# Altium integrated library Xilinx XC17S00.IntLib: 62 symbols (part 2 of 2)
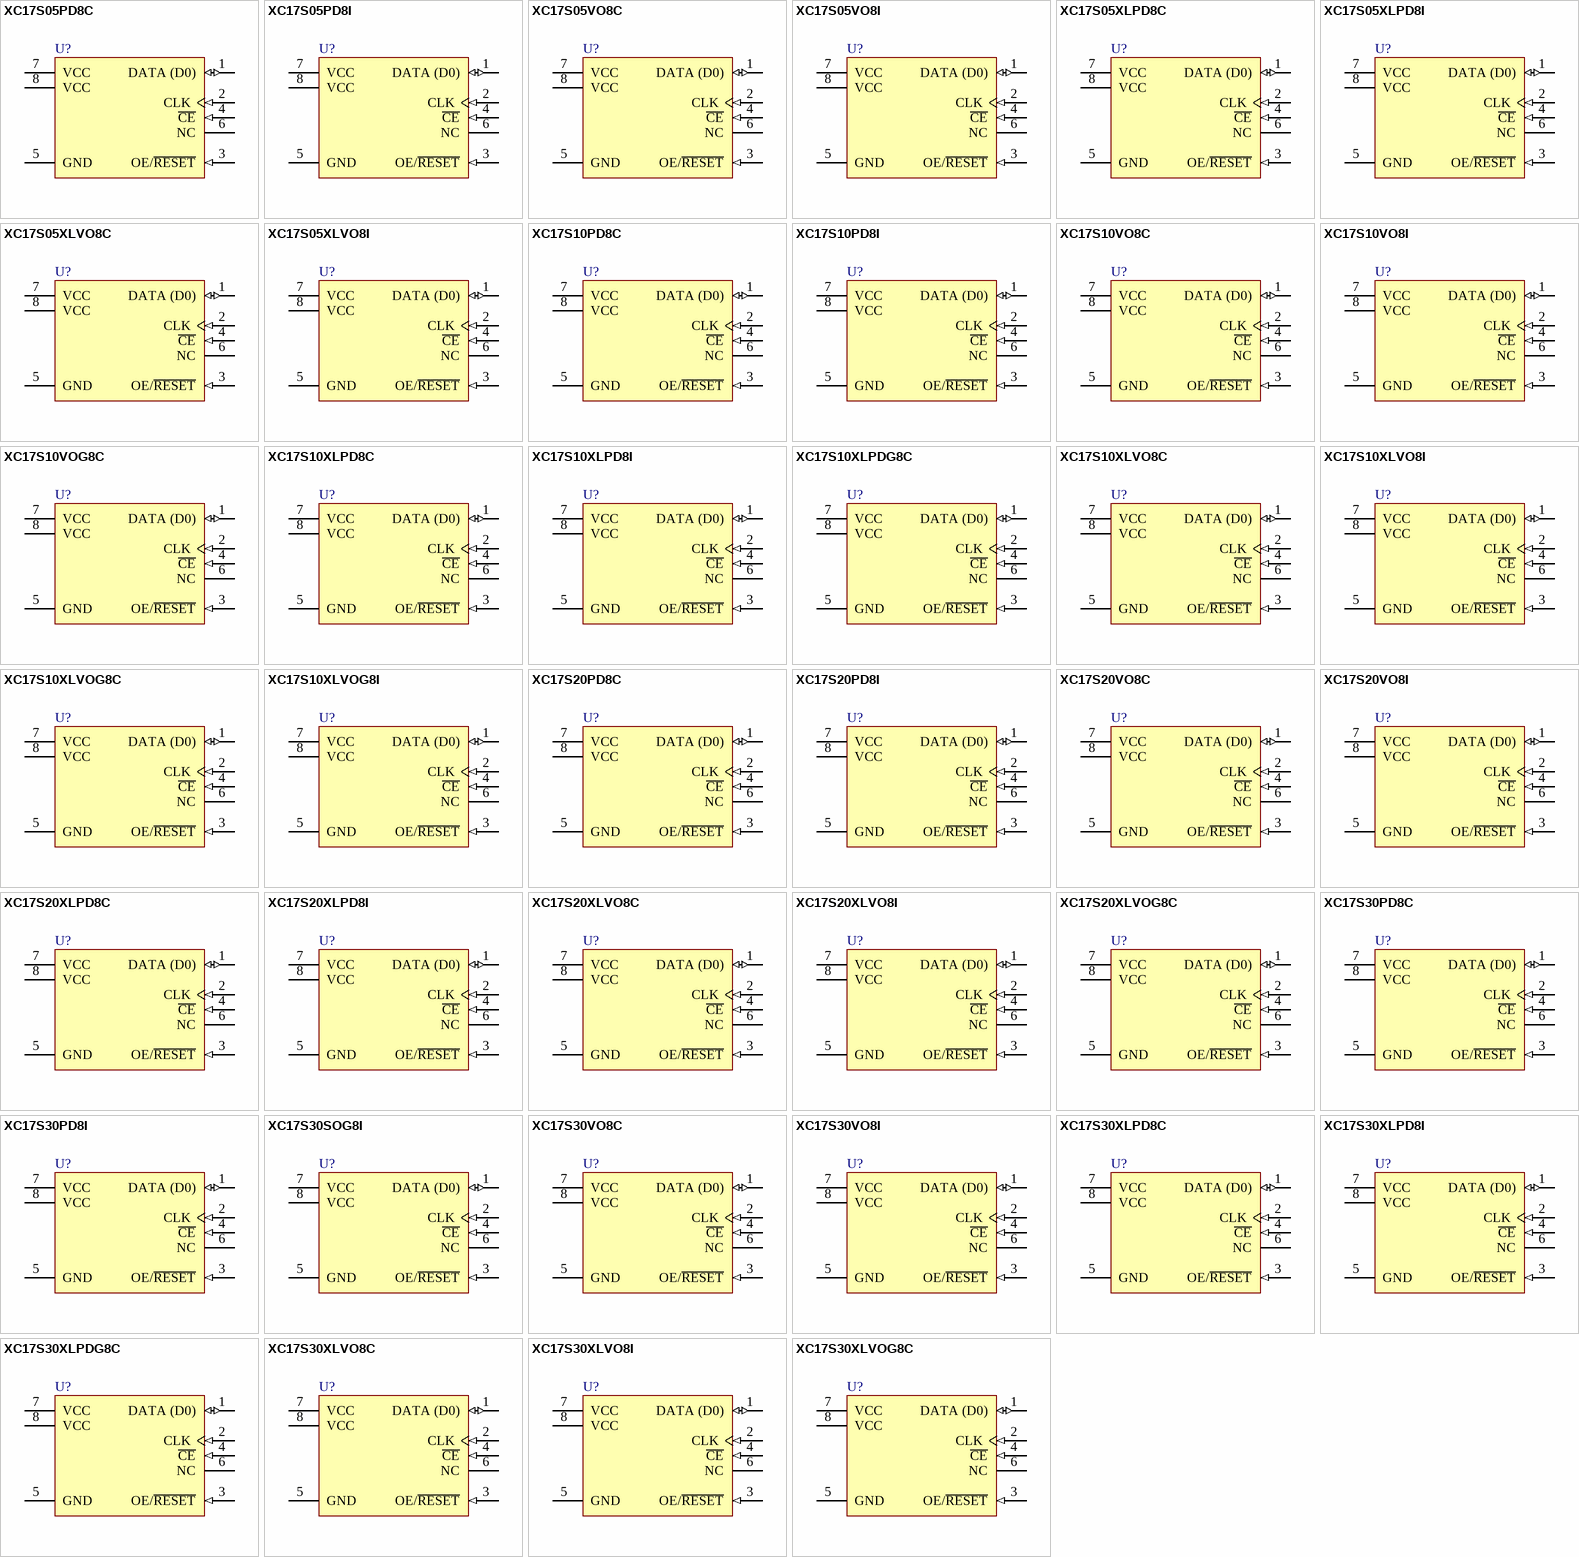
[diagram p2: symbols XC17S05PD8C to XC17S30XLVOG8C]

## XC17S30XLVO8C
designator U?
XC17S00XL Series, One-Time Programmable Configuration 3.3V PROM, 8-Pin TSOP, XCS30XL Compatible, Commercial Grade; DatasheetVersion: ver1.12, Jun-2008; PackageVersion: ver1.1, Apr-2001; PackageReference: VO8; PackageDescription: 8-Pin Thin Small Outline Package (VO8); ComponentLink1Description: Manufacturer URL; ComponentLink1URL: http://www.xilinx.com/; ComponentLink2Description: XC17S00/XL Datasheet; ComponentLink2URL: http://www.xilinx.com/support/documentation/data_sheets/ds030.pdf; ComponentLink3Description: VO8 Package Drawing; ComponentLink3URL: http://www.xilinx.com/support/documentation/package_specs/vo8.pdf; ComponentLink4Description: Configuration PROM Documents; ComponentLink4URL: http://www.xilinx.com/support/documentation/configuration_proms.htm
footprint VO8_N (SOIC, 8-Leads, Body 4.9x3.9mm, Pitch 1.27mm, IPC Medium Density)
footprint VO8_L (SOIC, 8-Leads, Body 4.9x3.9mm, Pitch 1.27mm, IPC High Density)
footprint VO8_M (SOIC, 8-Leads, Body 4.9x3.9mm, Pitch 1.27mm, IPC Low Density)
pins: 1 DATA (D0) (io) "Data Output.", 2 CLK (in) "Clock input for internal address counter.", 3 OE/~{RESET} (in) "DATA Output Enable/Address Counter Reset", 4 ~{CE} (in) "Reset internal Address Counter, Disable DATA Output, Force device into Standby Mode.", 5 GND (power) "Ground.", 6 NC "No Connection.", 7 VCC (power) "Positive Supply.", 8 VCC (power) "Positive Supply."

## XC17S30XLVO8I
designator U?
XC17S00XL Series, One-Time Programmable Configuration 3.3V PROM, 8-Pin TSOP, XCS30XL Compatible, Industrial Grade; DatasheetVersion: ver1.12, Jun-2008; PackageVersion: ver1.1, Apr-2001; PackageReference: VO8; PackageDescription: 8-Pin Thin Small Outline Package (VO8); ComponentLink1Description: Manufacturer URL; ComponentLink1URL: http://www.xilinx.com/; ComponentLink2Description: XC17S00/XL Datasheet; ComponentLink2URL: http://www.xilinx.com/support/documentation/data_sheets/ds030.pdf; ComponentLink3Description: VO8 Package Drawing; ComponentLink3URL: http://www.xilinx.com/support/documentation/package_specs/vo8.pdf; ComponentLink4Description: Configuration PROM Documents; ComponentLink4URL: http://www.xilinx.com/support/documentation/configuration_proms.htm
footprint VO8_N (SOIC, 8-Leads, Body 4.9x3.9mm, Pitch 1.27mm, IPC Medium Density)
footprint VO8_L (SOIC, 8-Leads, Body 4.9x3.9mm, Pitch 1.27mm, IPC High Density)
footprint VO8_M (SOIC, 8-Leads, Body 4.9x3.9mm, Pitch 1.27mm, IPC Low Density)
pins: 1 DATA (D0) (io) "Data Output.", 2 CLK (in) "Clock input for internal address counter.", 3 OE/~{RESET} (in) "DATA Output Enable/Address Counter Reset", 4 ~{CE} (in) "Reset internal Address Counter, Disable DATA Output, Force device into Standby Mode.", 5 GND (power) "Ground.", 6 NC "No Connection.", 7 VCC (power) "Positive Supply.", 8 VCC (power) "Positive Supply."

## XC17S30XLVOG8C
designator U?
XC17S00XL Series, One-Time Programmable Configuration 3.3V PROM, 8-Pin TSOP, XCS30XL Compatible, Commercial Grade, Pb-Free; DatasheetVersion: ver1.12, Jun-2008; PackageVersion: ver1.1, Apr-2001; PackageReference: VOG8; PackageDescription: 8-Pin Thin Small Outline Package (VOG8) - Pb-Free; ComponentLink1Description: Manufacturer URL; ComponentLink1URL: http://www.xilinx.com/; ComponentLink2Description: XC17S00/XL Datasheet; ComponentLink2URL: http://www.xilinx.com/support/documentation/data_sheets/ds030.pdf; ComponentLink3Description: VOG8 Package Drawing; ComponentLink3URL: http://www.xilinx.com/support/documentation/package_specs/vo8.pdf; ComponentLink4Description: Configuration PROM Documents; ComponentLink4URL: http://www.xilinx.com/support/documentation/configuration_proms.htm
footprint VOG8_N (SOIC, 8-Leads, Body 4.9x3.9mm, Pitch 1.27mm, IPC Medium Density)
footprint VOG8_L (SOIC, 8-Leads, Body 4.9x3.9mm, Pitch 1.27mm, IPC High Density)
footprint VOG8_M (SOIC, 8-Leads, Body 4.9x3.9mm, Pitch 1.27mm, IPC Low Density)
pins: 1 DATA (D0) (io) "Data Output.", 2 CLK (in) "Clock input for internal address counter.", 3 OE/~{RESET} (in) "DATA Output Enable/Address Counter Reset", 4 ~{CE} (in) "Reset internal Address Counter, Disable DATA Output, Force device into Standby Mode.", 5 GND (power) "Ground.", 6 NC "No Connection.", 7 VCC (power) "Positive Supply.", 8 VCC (power) "Positive Supply."

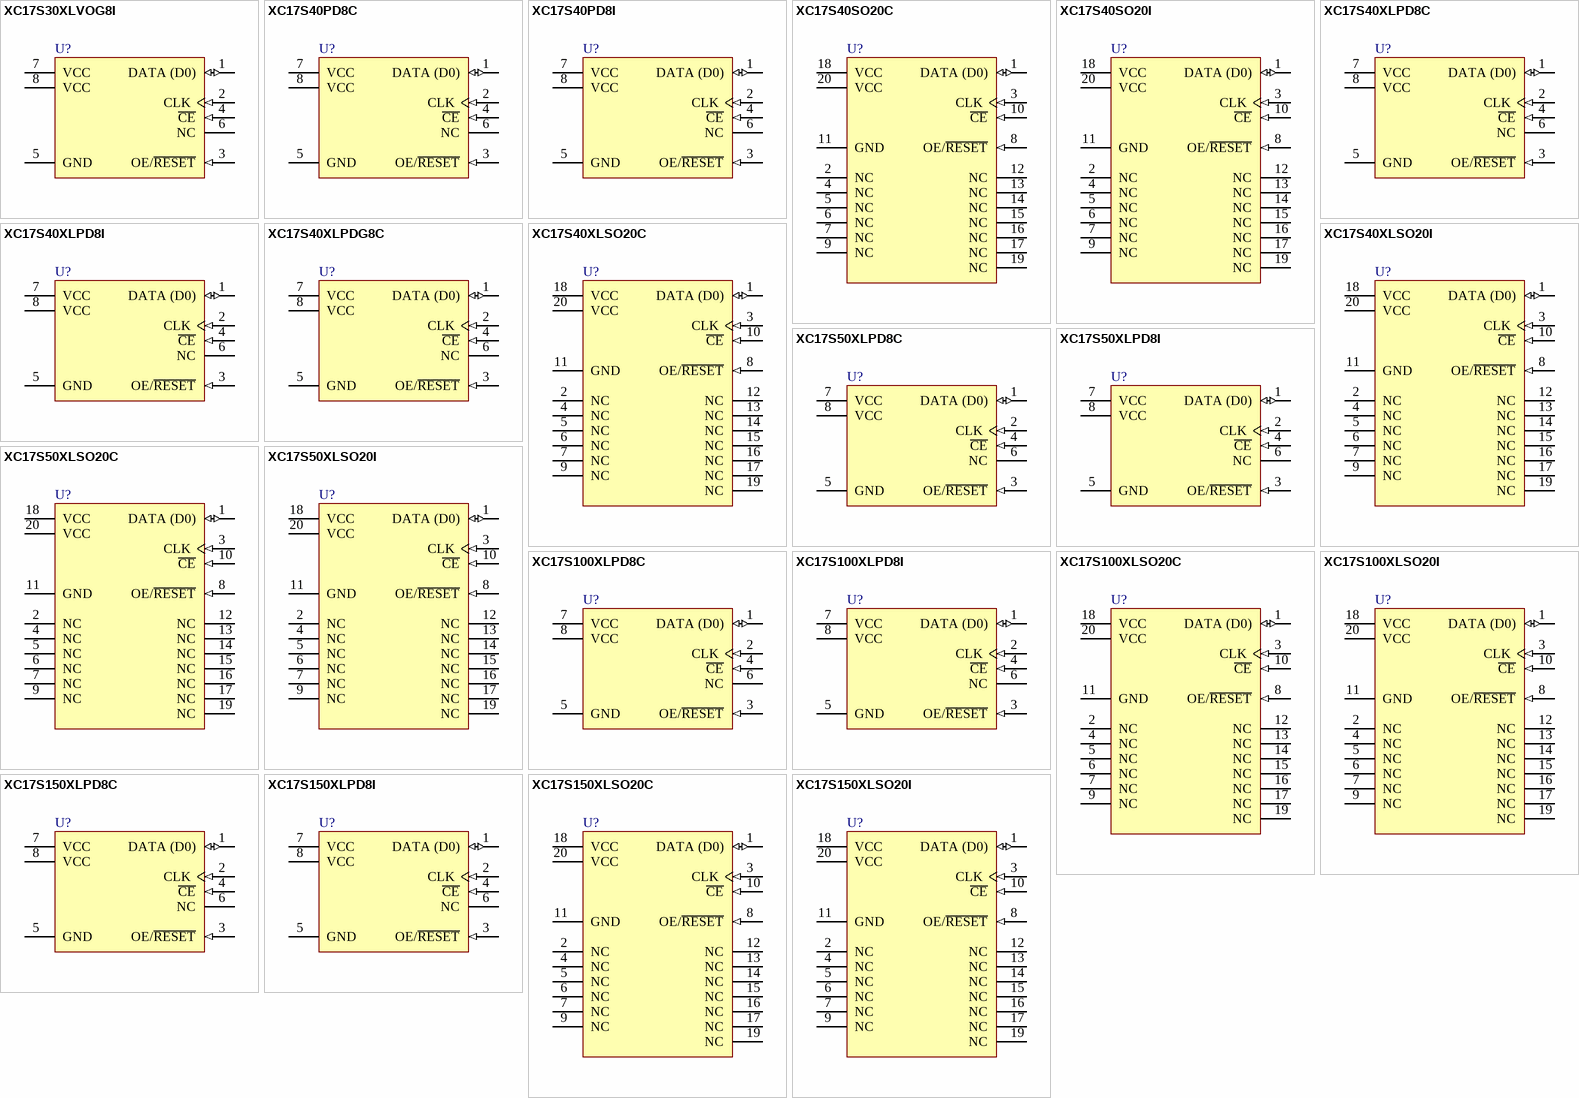
[diagram p1: symbols XC17S30XLVOG8I to XC17S150XLSO20I]

## XC17S30XLVOG8I
designator U?
XC17S00XL Series, One-Time Programmable Configuration 3.3V PROM, 8-Pin TSOP, XCS30XL Compatible, Industrial Grade, Pb-Free; DatasheetVersion: ver1.12, Jun-2008; PackageVersion: ver1.1, Apr-2001; PackageReference: VOG8; PackageDescription: 8-Pin Thin Small Outline Package (VOG8) - Pb-Free; ComponentLink1Description: Manufacturer URL; ComponentLink1URL: http://www.xilinx.com/; ComponentLink2Description: XC17S00/XL Datasheet; ComponentLink2URL: http://www.xilinx.com/support/documentation/data_sheets/ds030.pdf; ComponentLink3Description: VOG8 Package Drawing; ComponentLink3URL: http://www.xilinx.com/support/documentation/package_specs/vo8.pdf; ComponentLink4Description: Configuration PROM Documents; ComponentLink4URL: http://www.xilinx.com/support/documentation/configuration_proms.htm
footprint VOG8_N (SOIC, 8-Leads, Body 4.9x3.9mm, Pitch 1.27mm, IPC Medium Density)
footprint VOG8_L (SOIC, 8-Leads, Body 4.9x3.9mm, Pitch 1.27mm, IPC High Density)
footprint VOG8_M (SOIC, 8-Leads, Body 4.9x3.9mm, Pitch 1.27mm, IPC Low Density)
pins: 1 DATA (D0) (io) "Data Output.", 2 CLK (in) "Clock input for internal address counter.", 3 OE/~{RESET} (in) "DATA Output Enable/Address Counter Reset", 4 ~{CE} (in) "Reset internal Address Counter, Disable DATA Output, Force device into Standby Mode.", 5 GND (power) "Ground.", 6 NC "No Connection.", 7 VCC (power) "Positive Supply.", 8 VCC (power) "Positive Supply."

## XC17S40PD8C
designator U?
XC17S00 Series, One-Time Programmable Configuration 5V PROM, 8-Pin PDIP, XCS40 Compatible, Commercial Grade; DatasheetVersion: ver1.12, Jun-2008; PackageVersion: rev1.1, Apr-2001; PackageReference: PD8; PackageDescription: 8-Pin Plastic DIP (PD8); Code_JEDEC: MS-001-BA; ComponentLink1Description: Manufacturer URL; ComponentLink1URL: http://www.xilinx.com/; ComponentLink2Description: XC17S00/XL Datasheet; ComponentLink2URL: http://www.xilinx.com/support/documentation/data_sheets/ds030.pdf; ComponentLink3Description: PD8 Package Drawing; ComponentLink3URL: http://www.xilinx.com/support/documentation/package_specs/pd08.pdf; ComponentLink4Description: Configuration PROM Documents; ComponentLink4URL: http://www.xilinx.com/support/documentation/configuration_proms.htm
footprint PD8 (DIP, 8-Leads, Row Spacing 7.62mm, Pitch 2.54mm, Body 9.36x6.5mm)
pins: 1 DATA (D0) (io) "Data Output.", 2 CLK (in) "Clock input for internal address counter.", 3 OE/~{RESET} (in) "DATA Output Enable/Address Counter Reset", 4 ~{CE} (in) "Reset internal Address Counter, Disable DATA Output, Force device into Standby Mode.", 5 GND (power) "Ground.", 6 NC "No Connection.", 7 VCC (power) "Positive Supply.", 8 VCC (power) "Positive Supply."

## XC17S40PD8I
designator U?
XC17S00 Series, One-Time Programmable Configuration 5V PROM, 8-Pin PDIP, XCS40 Compatible, Industrial Grade; DatasheetVersion: ver1.12, Jun-2008; PackageVersion: rev1.1, Apr-2001; PackageReference: PD8; PackageDescription: 8-Pin Plastic DIP (PD8); Code_JEDEC: MS-001-BA; ComponentLink1Description: Manufacturer URL; ComponentLink1URL: http://www.xilinx.com/; ComponentLink2Description: XC17S00/XL Datasheet; ComponentLink2URL: http://www.xilinx.com/support/documentation/data_sheets/ds030.pdf; ComponentLink3Description: PD8 Package Drawing; ComponentLink3URL: http://www.xilinx.com/support/documentation/package_specs/pd08.pdf; ComponentLink4Description: Configuration PROM Documents; ComponentLink4URL: http://www.xilinx.com/support/documentation/configuration_proms.htm
footprint PD8 (DIP, 8-Leads, Row Spacing 7.62mm, Pitch 2.54mm, Body 9.36x6.5mm)
pins: 1 DATA (D0) (io) "Data Output.", 2 CLK (in) "Clock input for internal address counter.", 3 OE/~{RESET} (in) "DATA Output Enable/Address Counter Reset", 4 ~{CE} (in) "Reset internal Address Counter, Disable DATA Output, Force device into Standby Mode.", 5 GND (power) "Ground.", 6 NC "No Connection.", 7 VCC (power) "Positive Supply.", 8 VCC (power) "Positive Supply."

## XC17S40SO20C
designator U?
XC17S00 Series, One-Time Programmable Configuration 5V PROM, 20-Pin SOIC, XCS40 Compatible, Commercial Grade; DatasheetVersion: ver1.12, Jun-2008; PackageVersion: ver1.0, Jun-2000; PackageReference: SO20; PackageDescription: 20-Pin Small Outline Package (SO20); Code_JEDEC: MS-013-AC; ComponentLink1Description: Manufacturer URL; ComponentLink1URL: http://www.xilinx.com/; ComponentLink2Description: XC17S00/XL Datasheet; ComponentLink2URL: http://www.xilinx.com/support/documentation/data_sheets/ds030.pdf; ComponentLink3Description: SO20 Package Drawing; ComponentLink3URL: http://www.xilinx.com/support/documentation/package_specs/so20.pdf; ComponentLink4Description: Configuration PROM Documents; ComponentLink4URL: http://www.xilinx.com/support/documentation/configuration_proms.htm
footprint SO20_N (SOIC, 20-Leads, Body 12.8x7.5mm, Pitch 1.27mm, IPC Medium Density)
footprint SO20_L (SOIC, 20-Leads, Body 12.8x7.5mm, Pitch 1.27mm, IPC High Density)
footprint SO20_M (SOIC, 20-Leads, Body 12.8x7.5mm, Pitch 1.27mm, IPC Low Density)
pins: 1 DATA (D0) (io) "Data Output.", 2 NC "No Connection.", 3 CLK (in) "Clock input for internal address counter.", 4 NC "No Connection.", 5 NC "No Connection.", 6 NC "No Connection.", 7 NC "No Connection.", 8 OE/~{RESET} (in) "DATA Output Enable/Address Counter Reset", 9 NC "No Connection.", 10 ~{CE} (in) "Reset internal Address Counter, Disable DATA Output, Force device into Standby Mode.", 11 GND (power) "Ground.", 12 NC "No Connection.", 13 NC "No Connection.", 14 NC "No Connection.", 15 NC "No Connection.", 16 NC "No Connection.", 17 NC "No Connection.", 18 VCC (power) "Positive Supply.", 19 NC "No Connection.", 20 VCC (power) "Positive Supply."

## XC17S40SO20I
designator U?
XC17S00 Series, One-Time Programmable Configuration 5V PROM, 20-Pin SOIC, XCS40 Compatible, Industrial Grade; DatasheetVersion: ver1.12, Jun-2008; PackageVersion: ver1.0, Jun-2000; PackageReference: SO20; PackageDescription: 20-Pin Small Outline Package (SO20); Code_JEDEC: MS-013-AC; ComponentLink1Description: Manufacturer URL; ComponentLink1URL: http://www.xilinx.com/; ComponentLink2Description: XC17S00/XL Datasheet; ComponentLink2URL: http://www.xilinx.com/support/documentation/data_sheets/ds030.pdf; ComponentLink3Description: SO20 Package Drawing; ComponentLink3URL: http://www.xilinx.com/support/documentation/package_specs/so20.pdf; ComponentLink4Description: Configuration PROM Documents; ComponentLink4URL: http://www.xilinx.com/support/documentation/configuration_proms.htm
footprint SO20_N (SOIC, 20-Leads, Body 12.8x7.5mm, Pitch 1.27mm, IPC Medium Density)
footprint SO20_L (SOIC, 20-Leads, Body 12.8x7.5mm, Pitch 1.27mm, IPC High Density)
footprint SO20_M (SOIC, 20-Leads, Body 12.8x7.5mm, Pitch 1.27mm, IPC Low Density)
pins: 1 DATA (D0) (io) "Data Output.", 2 NC "No Connection.", 3 CLK (in) "Clock input for internal address counter.", 4 NC "No Connection.", 5 NC "No Connection.", 6 NC "No Connection.", 7 NC "No Connection.", 8 OE/~{RESET} (in) "DATA Output Enable/Address Counter Reset", 9 NC "No Connection.", 10 ~{CE} (in) "Reset internal Address Counter, Disable DATA Output, Force device into Standby Mode.", 11 GND (power) "Ground.", 12 NC "No Connection.", 13 NC "No Connection.", 14 NC "No Connection.", 15 NC "No Connection.", 16 NC "No Connection.", 17 NC "No Connection.", 18 VCC (power) "Positive Supply.", 19 NC "No Connection.", 20 VCC (power) "Positive Supply."

## XC17S40XLPD8C
designator U?
XC17S00XL Series, One-Time Programmable Configuration 3.3V PROM, 8-Pin PDIP, XCS40XL Compatible, Commercial Grade; DatasheetVersion: ver1.12, Jun-2008; PackageVersion: rev1.1, Apr-2001; PackageReference: PD8; PackageDescription: 8-Pin Plastic DIP (PD8); Code_JEDEC: MS-001-BA; ComponentLink1Description: Manufacturer URL; ComponentLink1URL: http://www.xilinx.com/; ComponentLink2Description: XC17S00/XL Datasheet; ComponentLink2URL: http://www.xilinx.com/support/documentation/data_sheets/ds030.pdf; ComponentLink3Description: PD8 Package Drawing; ComponentLink3URL: http://www.xilinx.com/support/documentation/package_specs/pd08.pdf; ComponentLink4Description: Configuration PROM Documents; ComponentLink4URL: http://www.xilinx.com/support/documentation/configuration_proms.htm
footprint PD8 (DIP, 8-Leads, Row Spacing 7.62mm, Pitch 2.54mm, Body 9.36x6.5mm)
pins: 1 DATA (D0) (io) "Data Output.", 2 CLK (in) "Clock input for internal address counter.", 3 OE/~{RESET} (in) "DATA Output Enable/Address Counter Reset", 4 ~{CE} (in) "Reset internal Address Counter, Disable DATA Output, Force device into Standby Mode.", 5 GND (power) "Ground.", 6 NC "No Connection.", 7 VCC (power) "Positive Supply.", 8 VCC (power) "Positive Supply."

## XC17S40XLPD8I
designator U?
XC17S00XL Series, One-Time Programmable Configuration 3.3V PROM, 8-Pin PDIP, XCS40XL Compatible, Industrial Grade; DatasheetVersion: ver1.12, Jun-2008; PackageVersion: rev1.1, Apr-2001; PackageReference: PD8; PackageDescription: 8-Pin Plastic DIP (PD8); Code_JEDEC: MS-001-BA; ComponentLink1Description: Manufacturer URL; ComponentLink1URL: http://www.xilinx.com/; ComponentLink2Description: XC17S00/XL Datasheet; ComponentLink2URL: http://www.xilinx.com/support/documentation/data_sheets/ds030.pdf; ComponentLink3Description: PD8 Package Drawing; ComponentLink3URL: http://www.xilinx.com/support/documentation/package_specs/pd08.pdf; ComponentLink4Description: Configuration PROM Documents; ComponentLink4URL: http://www.xilinx.com/support/documentation/configuration_proms.htm
footprint PD8 (DIP, 8-Leads, Row Spacing 7.62mm, Pitch 2.54mm, Body 9.36x6.5mm)
pins: 1 DATA (D0) (io) "Data Output.", 2 CLK (in) "Clock input for internal address counter.", 3 OE/~{RESET} (in) "DATA Output Enable/Address Counter Reset", 4 ~{CE} (in) "Reset internal Address Counter, Disable DATA Output, Force device into Standby Mode.", 5 GND (power) "Ground.", 6 NC "No Connection.", 7 VCC (power) "Positive Supply.", 8 VCC (power) "Positive Supply."

## XC17S40XLPDG8C
designator U?
XC17S00XL Series, One-Time Programmable Configuration 3.3V PROM, 8-Pin PDIP, XCS40XL Compatible, Commercial Grade, Pb-Free; DatasheetVersion: ver1.12, Jun-2008; PackageVersion: rev1.1, Apr-2001; PackageReference: PDG8; PackageDescription: 8-Pin Plastic DIP (PDG8), Pb-Free; Code_JEDEC: MS-001-BA; ComponentLink1Description: Manufacturer URL; ComponentLink1URL: http://www.xilinx.com/; ComponentLink2Description: XC17S00/XL Datasheet; ComponentLink2URL: http://www.xilinx.com/support/documentation/data_sheets/ds030.pdf; ComponentLink3Description: PDG8 Package Drawing; ComponentLink3URL: http://www.xilinx.com/support/documentation/package_specs/pd08.pdf; ComponentLink4Description: Configuration PROM Documents; ComponentLink4URL: http://www.xilinx.com/support/documentation/configuration_proms.htm
footprint PDG8 (DIP, 8-Leads, Row Spacing 7.62mm, Pitch 2.54mm, Body 9.36x6.5mm)
pins: 1 DATA (D0) (io) "Data Output.", 2 CLK (in) "Clock input for internal address counter.", 3 OE/~{RESET} (in) "DATA Output Enable/Address Counter Reset", 4 ~{CE} (in) "Reset internal Address Counter, Disable DATA Output, Force device into Standby Mode.", 5 GND (power) "Ground.", 6 NC "No Connection.", 7 VCC (power) "Positive Supply.", 8 VCC (power) "Positive Supply."

## XC17S40XLSO20C
designator U?
XC17S00XL Series, One-Time Programmable Configuration 3.3V PROM, 20-Pin SOIC, XCS40XL Compatible, Commercial Grade; DatasheetVersion: ver1.12, Jun-2008; PackageVersion: ver1.0, Jun-2000; PackageReference: SO20; PackageDescription: 20-Pin Small Outline Package (SO20); Code_JEDEC: MS-013-AC; ComponentLink1Description: Manufacturer URL; ComponentLink1URL: http://www.xilinx.com/; ComponentLink2Description: XC17S00/XL Datasheet; ComponentLink2URL: http://www.xilinx.com/support/documentation/data_sheets/ds030.pdf; ComponentLink3Description: SO20 Package Drawing; ComponentLink3URL: http://www.xilinx.com/support/documentation/package_specs/so20.pdf; ComponentLink4Description: Configuration PROM Documents; ComponentLink4URL: http://www.xilinx.com/support/documentation/configuration_proms.htm
footprint SO20_N (SOIC, 20-Leads, Body 12.8x7.5mm, Pitch 1.27mm, IPC Medium Density)
footprint SO20_L (SOIC, 20-Leads, Body 12.8x7.5mm, Pitch 1.27mm, IPC High Density)
footprint SO20_M (SOIC, 20-Leads, Body 12.8x7.5mm, Pitch 1.27mm, IPC Low Density)
pins: 1 DATA (D0) (io) "Data Output.", 2 NC "No Connection.", 3 CLK (in) "Clock input for internal address counter.", 4 NC "No Connection.", 5 NC "No Connection.", 6 NC "No Connection.", 7 NC "No Connection.", 8 OE/~{RESET} (in) "DATA Output Enable/Address Counter Reset", 9 NC "No Connection.", 10 ~{CE} (in) "Reset internal Address Counter, Disable DATA Output, Force device into Standby Mode.", 11 GND (power) "Ground.", 12 NC "No Connection.", 13 NC "No Connection.", 14 NC "No Connection.", 15 NC "No Connection.", 16 NC "No Connection.", 17 NC "No Connection.", 18 VCC (power) "Positive Supply.", 19 NC "No Connection.", 20 VCC (power) "Positive Supply."

## XC17S40XLSO20I
designator U?
XC17S00XL Series, One-Time Programmable Configuration 3.3V PROM, 20-Pin SOIC, XCS40XL Compatible, Industrial Grade; DatasheetVersion: ver1.12, Jun-2008; PackageVersion: ver1.0, Jun-2000; PackageReference: SO20; PackageDescription: 20-Pin Small Outline Package (SO20); Code_JEDEC: MS-013-AC; ComponentLink1Description: Manufacturer URL; ComponentLink1URL: http://www.xilinx.com/; ComponentLink2Description: XC17S00/XL Datasheet; ComponentLink2URL: http://www.xilinx.com/support/documentation/data_sheets/ds030.pdf; ComponentLink3Description: SO20 Package Drawing; ComponentLink3URL: http://www.xilinx.com/support/documentation/package_specs/so20.pdf; ComponentLink4Description: Configuration PROM Documents; ComponentLink4URL: http://www.xilinx.com/support/documentation/configuration_proms.htm
footprint SO20_N (SOIC, 20-Leads, Body 12.8x7.5mm, Pitch 1.27mm, IPC Medium Density)
footprint SO20_L (SOIC, 20-Leads, Body 12.8x7.5mm, Pitch 1.27mm, IPC High Density)
footprint SO20_M (SOIC, 20-Leads, Body 12.8x7.5mm, Pitch 1.27mm, IPC Low Density)
pins: 1 DATA (D0) (io) "Data Output.", 2 NC "No Connection.", 3 CLK (in) "Clock input for internal address counter.", 4 NC "No Connection.", 5 NC "No Connection.", 6 NC "No Connection.", 7 NC "No Connection.", 8 OE/~{RESET} (in) "DATA Output Enable/Address Counter Reset", 9 NC "No Connection.", 10 ~{CE} (in) "Reset internal Address Counter, Disable DATA Output, Force device into Standby Mode.", 11 GND (power) "Ground.", 12 NC "No Connection.", 13 NC "No Connection.", 14 NC "No Connection.", 15 NC "No Connection.", 16 NC "No Connection.", 17 NC "No Connection.", 18 VCC (power) "Positive Supply.", 19 NC "No Connection.", 20 VCC (power) "Positive Supply."

## XC17S50XLPD8C
designator U?
XC17S00XL Series, One-Time Programmable Configuration 3.3V PROM, 8-Pin PDIP, XC2S50 Compatible, Commercial Grade; DatasheetVersion: ver1.12, Jun-2008; PackageVersion: rev1.1, Apr-2001; PackageReference: PD8; PackageDescription: 8-Pin Plastic DIP (PD8); Code_JEDEC: MS-001-BA; ComponentLink1Description: Manufacturer URL; ComponentLink1URL: http://www.xilinx.com/; ComponentLink2Description: XC17S00/XL Datasheet; ComponentLink2URL: http://www.xilinx.com/support/documentation/data_sheets/ds030.pdf; ComponentLink3Description: PD8 Package Drawing; ComponentLink3URL: http://www.xilinx.com/support/documentation/package_specs/pd08.pdf; ComponentLink4Description: Configuration PROM Documents; ComponentLink4URL: http://www.xilinx.com/support/documentation/configuration_proms.htm
footprint PD8 (DIP, 8-Leads, Row Spacing 7.62mm, Pitch 2.54mm, Body 9.36x6.5mm)
pins: 1 DATA (D0) (io) "Data Output.", 2 CLK (in) "Clock input for internal address counter.", 3 OE/~{RESET} (in) "DATA Output Enable/Address Counter Reset", 4 ~{CE} (in) "Reset internal Address Counter, Disable DATA Output, Force device into Standby Mode.", 5 GND (power) "Ground.", 6 NC "No Connection.", 7 VCC (power) "Positive Supply.", 8 VCC (power) "Positive Supply."

## XC17S50XLPD8I
designator U?
XC17S00XL Series, One-Time Programmable Configuration 3.3V PROM, 8-Pin PDIP, XC2S50 Compatible, Industrial Grade; DatasheetVersion: ver1.12, Jun-2008; PackageVersion: rev1.1, Apr-2001; PackageReference: PD8; PackageDescription: 8-Pin Plastic DIP (PD8); Code_JEDEC: MS-001-BA; ComponentLink1Description: Manufacturer URL; ComponentLink1URL: http://www.xilinx.com/; ComponentLink2Description: XC17S00/XL Datasheet; ComponentLink2URL: http://www.xilinx.com/support/documentation/data_sheets/ds030.pdf; ComponentLink3Description: PD8 Package Drawing; ComponentLink3URL: http://www.xilinx.com/support/documentation/package_specs/pd08.pdf; ComponentLink4Description: Configuration PROM Documents; ComponentLink4URL: http://www.xilinx.com/support/documentation/configuration_proms.htm
footprint PD8 (DIP, 8-Leads, Row Spacing 7.62mm, Pitch 2.54mm, Body 9.36x6.5mm)
pins: 1 DATA (D0) (io) "Data Output.", 2 CLK (in) "Clock input for internal address counter.", 3 OE/~{RESET} (in) "DATA Output Enable/Address Counter Reset", 4 ~{CE} (in) "Reset internal Address Counter, Disable DATA Output, Force device into Standby Mode.", 5 GND (power) "Ground.", 6 NC "No Connection.", 7 VCC (power) "Positive Supply.", 8 VCC (power) "Positive Supply."

## XC17S50XLSO20C
designator U?
XC17S00XL Series, One-Time Programmable Configuration 3.3V PROM, 20-Pin SOIC, XC2S50 Compatible, Commercial Grade; DatasheetVersion: ver1.12, Jun-2008; PackageVersion: ver1.0, Jun-2000; PackageReference: SO20; PackageDescription: 20-Pin Small Outline Package (SO20); Code_JEDEC: MS-013-AC; ComponentLink1Description: Manufacturer URL; ComponentLink1URL: http://www.xilinx.com/; ComponentLink2Description: XC17S00/XL Datasheet; ComponentLink2URL: http://www.xilinx.com/support/documentation/data_sheets/ds030.pdf; ComponentLink3Description: SO20 Package Drawing; ComponentLink3URL: http://www.xilinx.com/support/documentation/package_specs/so20.pdf; ComponentLink4Description: Configuration PROM Documents; ComponentLink4URL: http://www.xilinx.com/support/documentation/configuration_proms.htm
footprint SO20_N (SOIC, 20-Leads, Body 12.8x7.5mm, Pitch 1.27mm, IPC Medium Density)
footprint SO20_L (SOIC, 20-Leads, Body 12.8x7.5mm, Pitch 1.27mm, IPC High Density)
footprint SO20_M (SOIC, 20-Leads, Body 12.8x7.5mm, Pitch 1.27mm, IPC Low Density)
pins: 1 DATA (D0) (io) "Data Output.", 2 NC "No Connection.", 3 CLK (in) "Clock input for internal address counter.", 4 NC "No Connection.", 5 NC "No Connection.", 6 NC "No Connection.", 7 NC "No Connection.", 8 OE/~{RESET} (in) "DATA Output Enable/Address Counter Reset", 9 NC "No Connection.", 10 ~{CE} (in) "Reset internal Address Counter, Disable DATA Output, Force device into Standby Mode.", 11 GND (power) "Ground.", 12 NC "No Connection.", 13 NC "No Connection.", 14 NC "No Connection.", 15 NC "No Connection.", 16 NC "No Connection.", 17 NC "No Connection.", 18 VCC (power) "Positive Supply.", 19 NC "No Connection.", 20 VCC (power) "Positive Supply."

## XC17S50XLSO20I
designator U?
XC17S00XL Series, One-Time Programmable Configuration 3.3V PROM, 20-Pin SOIC, XC2S50 Compatible, Industrial Grade; DatasheetVersion: ver1.12, Jun-2008; PackageVersion: ver1.0, Jun-2000; PackageReference: SO20; PackageDescription: 20-Pin Small Outline Package (SO20); Code_JEDEC: MS-013-AC; ComponentLink1Description: Manufacturer URL; ComponentLink1URL: http://www.xilinx.com/; ComponentLink2Description: XC17S00/XL Datasheet; ComponentLink2URL: http://www.xilinx.com/support/documentation/data_sheets/ds030.pdf; ComponentLink3Description: SO20 Package Drawing; ComponentLink3URL: http://www.xilinx.com/support/documentation/package_specs/so20.pdf; ComponentLink4Description: Configuration PROM Documents; ComponentLink4URL: http://www.xilinx.com/support/documentation/configuration_proms.htm
footprint SO20_N (SOIC, 20-Leads, Body 12.8x7.5mm, Pitch 1.27mm, IPC Medium Density)
footprint SO20_L (SOIC, 20-Leads, Body 12.8x7.5mm, Pitch 1.27mm, IPC High Density)
footprint SO20_M (SOIC, 20-Leads, Body 12.8x7.5mm, Pitch 1.27mm, IPC Low Density)
pins: 1 DATA (D0) (io) "Data Output.", 2 NC "No Connection.", 3 CLK (in) "Clock input for internal address counter.", 4 NC "No Connection.", 5 NC "No Connection.", 6 NC "No Connection.", 7 NC "No Connection.", 8 OE/~{RESET} (in) "DATA Output Enable/Address Counter Reset", 9 NC "No Connection.", 10 ~{CE} (in) "Reset internal Address Counter, Disable DATA Output, Force device into Standby Mode.", 11 GND (power) "Ground.", 12 NC "No Connection.", 13 NC "No Connection.", 14 NC "No Connection.", 15 NC "No Connection.", 16 NC "No Connection.", 17 NC "No Connection.", 18 VCC (power) "Positive Supply.", 19 NC "No Connection.", 20 VCC (power) "Positive Supply."

## XC17S100XLPD8C
designator U?
XC17S00XL Series, One-Time Programmable Configuration 3.3V PROM, 8-Pin PDIP, XCS2100 Compatible, Commercial Grade; DatasheetVersion: ver1.12, Jun-2008; PackageVersion: rev1.1, Apr-2001; PackageReference: PD8; PackageDescription: 8-Pin Plastic DIP (PD8); Code_JEDEC: MS-001-BA; ComponentLink1Description: Manufacturer URL; ComponentLink1URL: http://www.xilinx.com/; ComponentLink2Description: XC17S00/XL Datasheet; ComponentLink2URL: http://www.xilinx.com/support/documentation/data_sheets/ds030.pdf; ComponentLink3Description: PD8 Package Drawing; ComponentLink3URL: http://www.xilinx.com/support/documentation/package_specs/pd08.pdf; ComponentLink4Description: Configuration PROM Documents; ComponentLink4URL: http://www.xilinx.com/support/documentation/configuration_proms.htm
footprint PD8 (DIP, 8-Leads, Row Spacing 7.62mm, Pitch 2.54mm, Body 9.36x6.5mm)
pins: 1 DATA (D0) (io) "Data Output.", 2 CLK (in) "Clock input for internal address counter.", 3 OE/~{RESET} (in) "DATA Output Enable/Address Counter Reset", 4 ~{CE} (in) "Reset internal Address Counter, Disable DATA Output, Force device into Standby Mode.", 5 GND (power) "Ground.", 6 NC "No Connection.", 7 VCC (power) "Positive Supply.", 8 VCC (power) "Positive Supply."

## XC17S100XLPD8I
designator U?
XC17S00XL Series, One-Time Programmable Configuration 3.3V PROM, 8-Pin PDIP, XCS2100 Compatible, Industrial Grade; DatasheetVersion: ver1.12, Jun-2008; PackageVersion: rev1.1, Apr-2001; PackageReference: PD8; PackageDescription: 8-Pin Plastic DIP (PD8); Code_JEDEC: MS-001-BA; ComponentLink1Description: Manufacturer URL; ComponentLink1URL: http://www.xilinx.com/; ComponentLink2Description: XC17S00/XL Datasheet; ComponentLink2URL: http://www.xilinx.com/support/documentation/data_sheets/ds030.pdf; ComponentLink3Description: PD8 Package Drawing; ComponentLink3URL: http://www.xilinx.com/support/documentation/package_specs/pd08.pdf; ComponentLink4Description: Configuration PROM Documents; ComponentLink4URL: http://www.xilinx.com/support/documentation/configuration_proms.htm
footprint PD8 (DIP, 8-Leads, Row Spacing 7.62mm, Pitch 2.54mm, Body 9.36x6.5mm)
pins: 1 DATA (D0) (io) "Data Output.", 2 CLK (in) "Clock input for internal address counter.", 3 OE/~{RESET} (in) "DATA Output Enable/Address Counter Reset", 4 ~{CE} (in) "Reset internal Address Counter, Disable DATA Output, Force device into Standby Mode.", 5 GND (power) "Ground.", 6 NC "No Connection.", 7 VCC (power) "Positive Supply.", 8 VCC (power) "Positive Supply."

## XC17S100XLSO20C
designator U?
XC17S00XL Series, One-Time Programmable Configuration 3.3V PROM, 20-Pin SOIC, XCS2100 Compatible, Commercial Grade; DatasheetVersion: ver1.12, Jun-2008; PackageVersion: ver1.0, Jun-2000; PackageReference: SO20; PackageDescription: 20-Pin Small Outline Package (SO20); Code_JEDEC: MS-013-AC; ComponentLink1Description: Manufacturer URL; ComponentLink1URL: http://www.xilinx.com/; ComponentLink2Description: XC17S00/XL Datasheet; ComponentLink2URL: http://www.xilinx.com/support/documentation/data_sheets/ds030.pdf; ComponentLink3Description: SO20 Package Drawing; ComponentLink3URL: http://www.xilinx.com/support/documentation/package_specs/so20.pdf; ComponentLink4Description: Configuration PROM Documents; ComponentLink4URL: http://www.xilinx.com/support/documentation/configuration_proms.htm
footprint SO20_N (SOIC, 20-Leads, Body 12.8x7.5mm, Pitch 1.27mm, IPC Medium Density)
footprint SO20_L (SOIC, 20-Leads, Body 12.8x7.5mm, Pitch 1.27mm, IPC High Density)
footprint SO20_M (SOIC, 20-Leads, Body 12.8x7.5mm, Pitch 1.27mm, IPC Low Density)
pins: 1 DATA (D0) (io) "Data Output.", 2 NC "No Connection.", 3 CLK (in) "Clock input for internal address counter.", 4 NC "No Connection.", 5 NC "No Connection.", 6 NC "No Connection.", 7 NC "No Connection.", 8 OE/~{RESET} (in) "DATA Output Enable/Address Counter Reset", 9 NC "No Connection.", 10 ~{CE} (in) "Reset internal Address Counter, Disable DATA Output, Force device into Standby Mode.", 11 GND (power) "Ground.", 12 NC "No Connection.", 13 NC "No Connection.", 14 NC "No Connection.", 15 NC "No Connection.", 16 NC "No Connection.", 17 NC "No Connection.", 18 VCC (power) "Positive Supply.", 19 NC "No Connection.", 20 VCC (power) "Positive Supply."

## XC17S100XLSO20I
designator U?
XC17S00XL Series, One-Time Programmable Configuration 3.3V PROM, 20-Pin SOIC, XCS2100 Compatible, Industrial Grade; DatasheetVersion: ver1.12, Jun-2008; PackageVersion: ver1.0, Jun-2000; PackageReference: SO20; PackageDescription: 20-Pin Small Outline Package (SO20); Code_JEDEC: MS-013-AC; ComponentLink1Description: Manufacturer URL; ComponentLink1URL: http://www.xilinx.com/; ComponentLink2Description: XC17S00/XL Datasheet; ComponentLink2URL: http://www.xilinx.com/support/documentation/data_sheets/ds030.pdf; ComponentLink3Description: SO20 Package Drawing; ComponentLink3URL: http://www.xilinx.com/support/documentation/package_specs/so20.pdf; ComponentLink4Description: Configuration PROM Documents; ComponentLink4URL: http://www.xilinx.com/support/documentation/configuration_proms.htm
footprint SO20_N (SOIC, 20-Leads, Body 12.8x7.5mm, Pitch 1.27mm, IPC Medium Density)
footprint SO20_L (SOIC, 20-Leads, Body 12.8x7.5mm, Pitch 1.27mm, IPC High Density)
footprint SO20_M (SOIC, 20-Leads, Body 12.8x7.5mm, Pitch 1.27mm, IPC Low Density)
pins: 1 DATA (D0) (io) "Data Output.", 2 NC "No Connection.", 3 CLK (in) "Clock input for internal address counter.", 4 NC "No Connection.", 5 NC "No Connection.", 6 NC "No Connection.", 7 NC "No Connection.", 8 OE/~{RESET} (in) "DATA Output Enable/Address Counter Reset", 9 NC "No Connection.", 10 ~{CE} (in) "Reset internal Address Counter, Disable DATA Output, Force device into Standby Mode.", 11 GND (power) "Ground.", 12 NC "No Connection.", 13 NC "No Connection.", 14 NC "No Connection.", 15 NC "No Connection.", 16 NC "No Connection.", 17 NC "No Connection.", 18 VCC (power) "Positive Supply.", 19 NC "No Connection.", 20 VCC (power) "Positive Supply."

## XC17S150XLPD8C
designator U?
XC17S00XL Series, One-Time Programmable Configuration 3.3V PROM, 8-Pin PDIP, XC2S150 Compatible, Commercial Grade; DatasheetVersion: ver1.12, Jun-2008; PackageVersion: rev1.1, Apr-2001; PackageReference: PD8; PackageDescription: 8-Pin Plastic DIP (PD8); Code_JEDEC: MS-001-BA; ComponentLink1Description: Manufacturer URL; ComponentLink1URL: http://www.xilinx.com/; ComponentLink2Description: XC17S00/XL Datasheet; ComponentLink2URL: http://www.xilinx.com/support/documentation/data_sheets/ds030.pdf; ComponentLink3Description: PD8 Package Drawing; ComponentLink3URL: http://www.xilinx.com/support/documentation/package_specs/pd08.pdf; ComponentLink4Description: Configuration PROM Documents; ComponentLink4URL: http://www.xilinx.com/support/documentation/configuration_proms.htm
footprint PD8 (DIP, 8-Leads, Row Spacing 7.62mm, Pitch 2.54mm, Body 9.36x6.5mm)
pins: 1 DATA (D0) (io) "Data Output.", 2 CLK (in) "Clock input for internal address counter.", 3 OE/~{RESET} (in) "DATA Output Enable/Address Counter Reset", 4 ~{CE} (in) "Reset internal Address Counter, Disable DATA Output, Force device into Standby Mode.", 5 GND (power) "Ground.", 6 NC "No Connection.", 7 VCC (power) "Positive Supply.", 8 VCC (power) "Positive Supply."

## XC17S150XLPD8I
designator U?
XC17S00XL Series, One-Time Programmable Configuration 3.3V PROM, 8-Pin PDIP, XC2S150 Compatible, Industrial Grade; DatasheetVersion: ver1.12, Jun-2008; PackageVersion: rev1.1, Apr-2001; PackageReference: PD8; PackageDescription: 8-Pin Plastic DIP (PD8); Code_JEDEC: MS-001-BA; ComponentLink1Description: Manufacturer URL; ComponentLink1URL: http://www.xilinx.com/; ComponentLink2Description: XC17S00/XL Datasheet; ComponentLink2URL: http://www.xilinx.com/support/documentation/data_sheets/ds030.pdf; ComponentLink3Description: PD8 Package Drawing; ComponentLink3URL: http://www.xilinx.com/support/documentation/package_specs/pd08.pdf; ComponentLink4Description: Configuration PROM Documents; ComponentLink4URL: http://www.xilinx.com/support/documentation/configuration_proms.htm
footprint PD8 (DIP, 8-Leads, Row Spacing 7.62mm, Pitch 2.54mm, Body 9.36x6.5mm)
pins: 1 DATA (D0) (io) "Data Output.", 2 CLK (in) "Clock input for internal address counter.", 3 OE/~{RESET} (in) "DATA Output Enable/Address Counter Reset", 4 ~{CE} (in) "Reset internal Address Counter, Disable DATA Output, Force device into Standby Mode.", 5 GND (power) "Ground.", 6 NC "No Connection.", 7 VCC (power) "Positive Supply.", 8 VCC (power) "Positive Supply."

## XC17S150XLSO20C
designator U?
XC17S00XL Series, One-Time Programmable Configuration 3.3V PROM, 20-Pin SOIC, XC2S150 Compatible, Commercial Grade; DatasheetVersion: ver1.12, Jun-2008; PackageVersion: ver1.0, Jun-2000; PackageReference: SO20; PackageDescription: 20-Pin Small Outline Package (SO20); Code_JEDEC: MS-013-AC; ComponentLink1Description: Manufacturer URL; ComponentLink1URL: http://www.xilinx.com/; ComponentLink2Description: XC17S00/XL Datasheet; ComponentLink2URL: http://www.xilinx.com/support/documentation/data_sheets/ds030.pdf; ComponentLink3Description: SO20 Package Drawing; ComponentLink3URL: http://www.xilinx.com/support/documentation/package_specs/so20.pdf; ComponentLink4Description: Configuration PROM Documents; ComponentLink4URL: http://www.xilinx.com/support/documentation/configuration_proms.htm
footprint SO20_N (SOIC, 20-Leads, Body 12.8x7.5mm, Pitch 1.27mm, IPC Medium Density)
footprint SO20_L (SOIC, 20-Leads, Body 12.8x7.5mm, Pitch 1.27mm, IPC High Density)
footprint SO20_M (SOIC, 20-Leads, Body 12.8x7.5mm, Pitch 1.27mm, IPC Low Density)
pins: 1 DATA (D0) (io) "Data Output.", 2 NC "No Connection.", 3 CLK (in) "Clock input for internal address counter.", 4 NC "No Connection.", 5 NC "No Connection.", 6 NC "No Connection.", 7 NC "No Connection.", 8 OE/~{RESET} (in) "DATA Output Enable/Address Counter Reset", 9 NC "No Connection.", 10 ~{CE} (in) "Reset internal Address Counter, Disable DATA Output, Force device into Standby Mode.", 11 GND (power) "Ground.", 12 NC "No Connection.", 13 NC "No Connection.", 14 NC "No Connection.", 15 NC "No Connection.", 16 NC "No Connection.", 17 NC "No Connection.", 18 VCC (power) "Positive Supply.", 19 NC "No Connection.", 20 VCC (power) "Positive Supply."

## XC17S150XLSO20I
designator U?
XC17S00XL Series, One-Time Programmable Configuration 3.3V PROM, 20-Pin SOIC, XC2S150 Compatible, Industrial Grade; DatasheetVersion: ver1.12, Jun-2008; PackageVersion: ver1.0, Jun-2000; PackageReference: SO20; PackageDescription: 20-Pin Small Outline Package (SO20); Code_JEDEC: MS-013-AC; ComponentLink1Description: Manufacturer URL; ComponentLink1URL: http://www.xilinx.com/; ComponentLink2Description: XC17S00/XL Datasheet; ComponentLink2URL: http://www.xilinx.com/support/documentation/data_sheets/ds030.pdf; ComponentLink3Description: SO20 Package Drawing; ComponentLink3URL: http://www.xilinx.com/support/documentation/package_specs/so20.pdf; ComponentLink4Description: Configuration PROM Documents; ComponentLink4URL: http://www.xilinx.com/support/documentation/configuration_proms.htm
footprint SO20_N (SOIC, 20-Leads, Body 12.8x7.5mm, Pitch 1.27mm, IPC Medium Density)
footprint SO20_L (SOIC, 20-Leads, Body 12.8x7.5mm, Pitch 1.27mm, IPC High Density)
footprint SO20_M (SOIC, 20-Leads, Body 12.8x7.5mm, Pitch 1.27mm, IPC Low Density)
pins: 1 DATA (D0) (io) "Data Output.", 2 NC "No Connection.", 3 CLK (in) "Clock input for internal address counter.", 4 NC "No Connection.", 5 NC "No Connection.", 6 NC "No Connection.", 7 NC "No Connection.", 8 OE/~{RESET} (in) "DATA Output Enable/Address Counter Reset", 9 NC "No Connection.", 10 ~{CE} (in) "Reset internal Address Counter, Disable DATA Output, Force device into Standby Mode.", 11 GND (power) "Ground.", 12 NC "No Connection.", 13 NC "No Connection.", 14 NC "No Connection.", 15 NC "No Connection.", 16 NC "No Connection.", 17 NC "No Connection.", 18 VCC (power) "Positive Supply.", 19 NC "No Connection.", 20 VCC (power) "Positive Supply."